# EAGLE library part MICROUSB (library untitled)
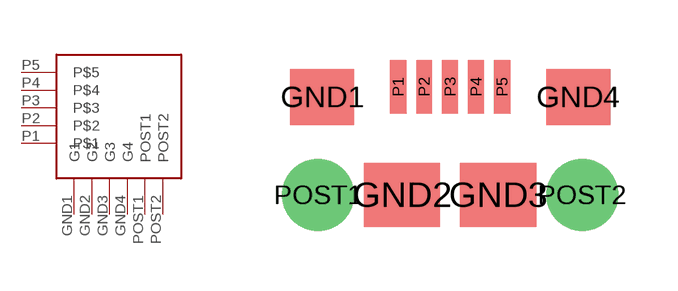
[diagram p17: symbol with the pads of MICROUSB; footprint MICROUSB]

Designator prefix -

## MICROUSB  [MICROUSB]
GND1  G1
GND2  G2
GND3  G3
GND4  G4
P1  P$1
P2  P$2
P3  P$3
P4  P$4
P5  P$5
POST1  POST1
POST2  POST2

## Footprint MICROUSB (pad centres in mm)
smd 1.6 x 1.4: GND1 -3.2,3.9; GND4 3.2,3.9
smd 1.9 x 1.6: GND2 -1.2,1.45; GND3 1.2,1.45
smd 0.4 x 1.35: P1 -1.3,4.15; P2 -0.65,4.15; P3 0,4.15; P4 0.65,4.15; P5 1.3,4.15
drill 1.2 round: POST1 -3.3,1.45; POST2 3.3,1.45